# EAGLE library part HEADER_32P (library Bauteile)
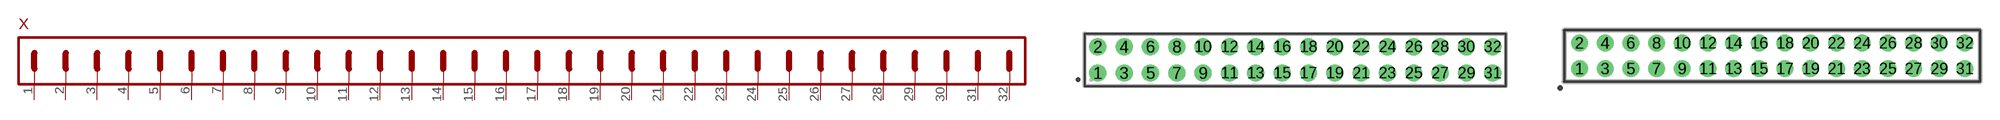
[diagram p146: symbol with the pads of HEADER_32P_2ROW_RM2.54MM_THT_WUERTH_61303221121; footprints HEADER_32P_2ROW_RM2.54MM_THT_WUERTH_61303221121, HEADER_32P_2ROW_RM2.00MM_THT_WUERTH_62003221121]

Designator prefix X

## HEADER_32P(RM2.54MM_2ROW_THT)  [HEADER_32P_2ROW_RM2.54MM_THT_WUERTH_61303221121]
1  PIN1
2  PIN2
3  PIN3
4  PIN4
5  PIN5
6  PIN6
7  PIN7
8  PIN8
9  PIN9
10  PIN10
11  PIN11
12  PIN12
13  PIN13
14  PIN14
15  PIN15
16  PIN16
17  PIN17
18  PIN18
19  PIN19
20  PIN20
21  PIN21
22  PIN22
23  PIN23
24  PIN24
25  PIN25
26  PIN26
27  PIN27
28  PIN28
29  PIN29
30  PIN30
31  PIN31
32  PIN32

## HEADER_32P(RM2.00MM_2ROW_THT) (ID: 62003221121)  [HEADER_32P_2ROW_RM2.00MM_THT_WUERTH_62003221121]
Pads as for HEADER_32P_2ROW_RM2.54MM_THT_WUERTH_61303221121

## Footprint HEADER_32P_2ROW_RM2.54MM_THT_WUERTH_61303221121 (pad centres in mm)
drill 1.1: 1 -19.05,-1.27; 2 -19.05,1.27; 3 -16.51,-1.27; 4 -16.51,1.27; 5 -13.97,-1.27; 6 -13.97,1.27; 7 -11.43,-1.27; 8 -11.43,1.27; 9 -8.89,-1.27; 10 -8.89,1.27; 11 -6.35,-1.27; 12 -6.35,1.27; 13 -3.81,-1.27; 14 -3.81,1.27; 15 -1.27,-1.27; 16 -1.27,1.27; 17 1.27,-1.27; 18 1.27,1.27; 19 3.81,-1.27; 20 3.81,1.27; 21 6.35,-1.27; 22 6.35,1.27; 23 8.89,-1.27; 24 8.89,1.27; 25 11.43,-1.27; 26 11.43,1.27; 27 13.97,-1.27; 28 13.97,1.27; 29 16.51,-1.27; 30 16.51,1.27; 31 19.05,-1.27; 32 19.05,1.27

## Footprint HEADER_32P_2ROW_RM2.00MM_THT_WUERTH_62003221121 (pad centres in mm)
drill 0.8: 1 -15,-1; 2 -15,1; 3 -13,-1; 4 -13,1; 5 -11,-1; 6 -11,1; 7 -9,-1; 8 -9,1; 9 -7,-1; 10 -7,1; 11 -5,-1; 12 -5,1; 13 -3,-1; 14 -3,1; 15 -1,-1; 16 -1,1; 17 1,-1; 18 1,1; 19 3,-1; 20 3,1; 21 5,-1; 22 5,1; 23 7,-1; 24 7,1; 25 9,-1; 26 9,1; 27 11,-1; 28 11,1; 29 13,-1; 30 13,1; 31 15,-1; 32 15,1